# Altium footprint library TACTB-6x6 SMD.PcbLib: 1 footprints
Each footprint in its own frame and in the unit in brackets; x right, y up, seen from the top. Pads: shape width x height; smd on the part's side, far side on the other; paste and mask are expansions set on the pad; w line width, h text height; cw(c..) or ccw(c..) is an arc to the next point about the centre after c.
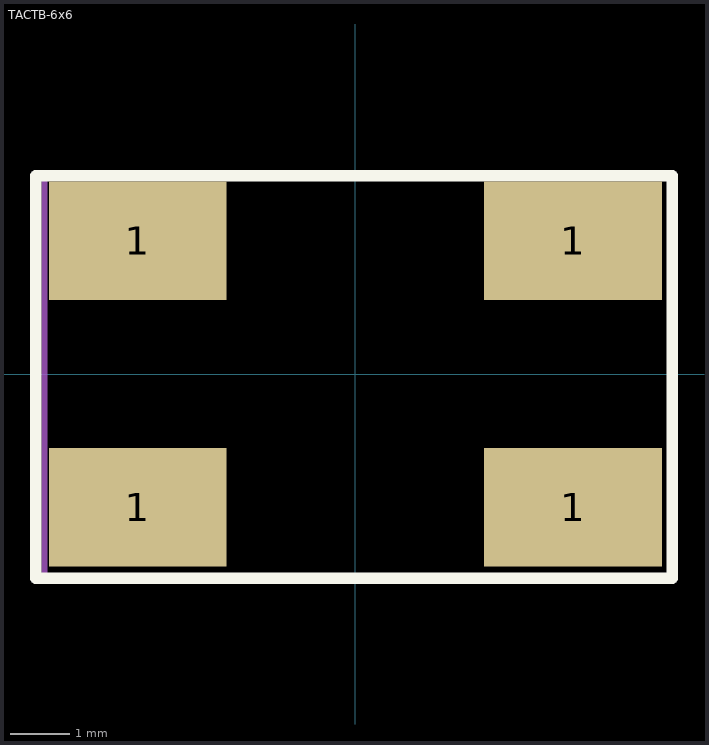
[diagram p0: the footprint, top view; thin cyan lines are the x and y axes]

## TACTB-6x6 [mm]
height 0.9
pads (4):
  rect 3x2 smd paste+0 mask+0.05: 1(-3.675,-2.25) 1(-3.675,2.25) 1(3.675,-2.25) 1(3.675,2.25)
Top Overlay:
  lines w0.2: -5.4,-3.45 5.35,-3.45 5.35,3.35 -5.4,3.35 -5.4,-3.45
Top Assembly:
  lines w0.1: -5.25,-3.45 5.325,-3.45 5.325,3.35 -5.25,3.35 -5.25,-3.45
  text "'.Designator'" at -0.95,-0.35 h0.7
3D body "xb-ts-1157-x-x.stp": height 3.7, standoff 0, extent -4.25,-3.3 4.25,3.3